# Altium footprint library EUP3489.PcbLib: 7 footprints
Each footprint in its own frame and in the unit in brackets; x right, y up, seen from the top. Pads: shape width x height; smd on the part's side, far side on the other; paste and mask are expansions set on the pad; w line width, h text height; cw(c..) or ccw(c..) is an arc to the next point about the centre after c.
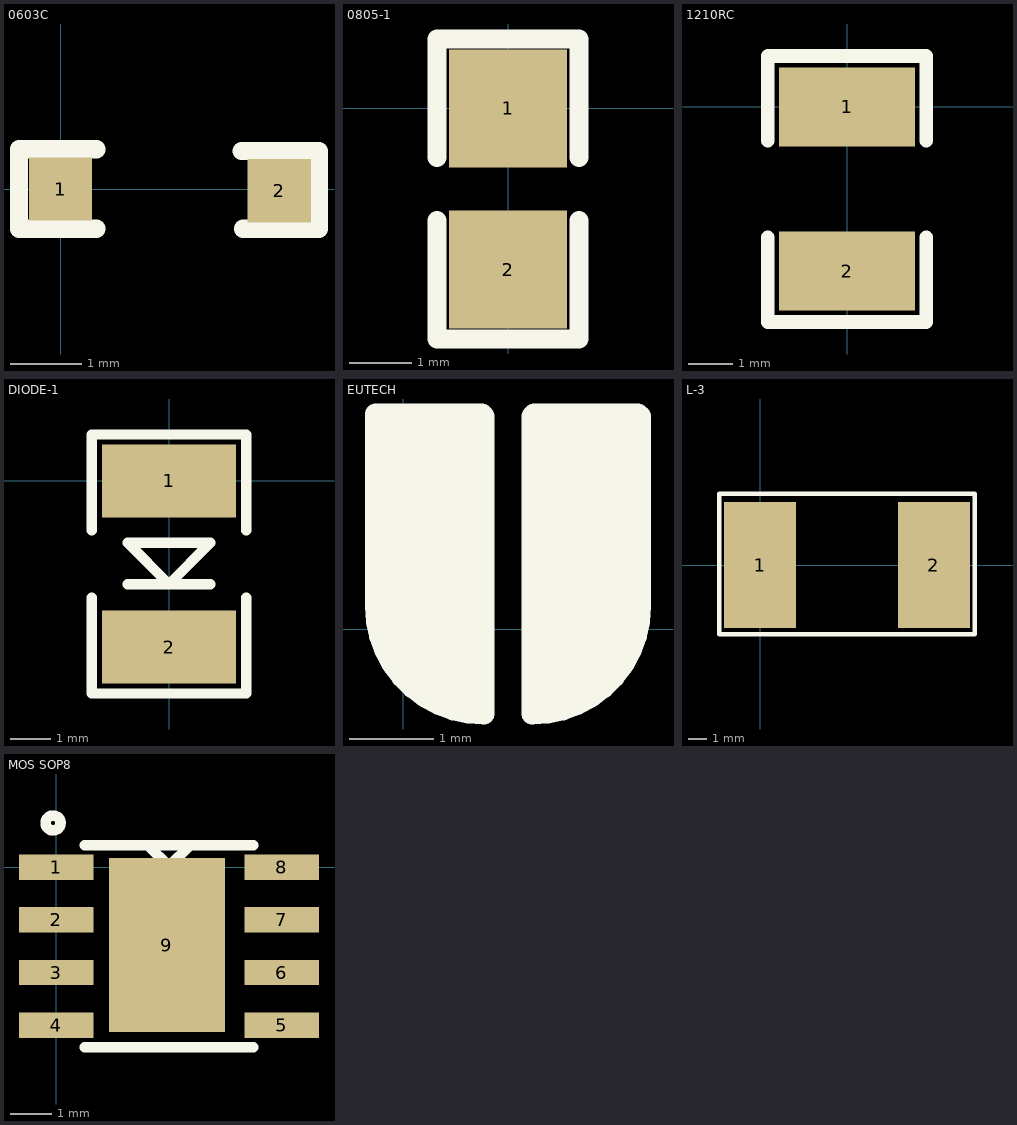
[diagram p0: the footprints below, top view; thin cyan lines are the x and y axes]

## 0603C [mil]
pads (2):
  rect 35x35 smd: 1(0,0) 2(121,-1)
Top Overlay:
  lines w10: 20,-22 -23,-22 -23,22 20,22 ; 100,21 142,21 ; 101,-22 143,-22 142,-21 ; 143,-21 143,21

## 0805-1 [mil]
pads (2):
  rect 75x75 smd: 1(0,0) 2(0,-102)
Top Overlay:
  lines w12: -45,-71 -45,-146 45,-146 45,-71 ; -45,-31 -45,44 45,44 45,-31

## 1210RC [mil]
pads (2):
  rect 120x70 smd: 1(0,0) 2(0,-145)
Top Overlay:
  lines w12: -70,-115 -70,-190 70,-190 70,-115 ; -70,-30 -70,45 70,45 70,-30

## DIODE-1 [mm]
pads (2):
  rect 3.3x1.8 smd: 1(0,0) 2(0,-4.089)
Top Overlay:
  lines w0.254: -1.905,-2.87 -1.905,-5.232 1.905,-5.232 1.905,-2.87 ; -1.905,-1.219 -1.905,1.143 1.905,1.143 1.905,-1.219 ; -1.016,-2.54 1.016,-2.54 ; -1.016,-1.524 1.016,-1.524 0,-2.54 -1.016,-1.524

## EUTECH [mil]
Top Overlay:
  lines w10: -13.02,11.05 ccw(c37.4,11.05) 37.4,-39.37 ; -12.8,10.83 -12.8,100.39 36.42,100.39 37.4,99.41 37.4,-39.37 ; -4.92,94.49 -4.92,-15.75 0,-20.67 0,97.44 0.98,98.43 7.87,98.43 9.84,96.46 9.84,-22.64 18.7,-31.5 18.7,96.46 26.57,96.46 28.54,94.49 28.54,-30.51 37.4,-39.37 ; 69.88,97.44 69.88,-34.45 68.9,-35.43 73.82,-35.43 78.74,-30.51 78.74,97.44 ; 110.46,11.05 cw(c60.04,11.05) 60.04,-39.37 60.04,99.41 61.02,100.39 109.25,100.39 110.24,99.41 110.24,9.84 103.35,-6.89 103.35,96.46 102.36,97.44 94.49,97.44 97.44,94.49 97.44,-17.72 87.6,-27.56 87.6,97.44 78.74,97.44 ; 78.74,97.44 78.74,97.44

## L-3 [mm]
pads (2):
  rect 4x7 smd: 1(0,0) 2(9.652,0)
Top Overlay:
  lines w0.254: -2.261,-3.835 -2.261,3.962 11.913,3.962 11.913,-3.835 -2.261,-3.835

## MOS SOP8 [mil]
pads (9):
  rect 70.87x24 smd: 1(0,0) 2(0,-50) 3(0,-100) 4(0,-150) 5(214,-150) 6(214,-100) 7(214,-50) 8(214,0)
  rect 110.24x165.35 smd: 9(105,-74)
Top Overlay:
  circle w10: c-3.07,42 r7.07
  lines w10: 27,-171 187,-171 ; 27,21 187,21 ; 87,21 107,1 127,21
Top Solder:
  rectangle: 59,-166.19 154,15.81
Bottom Solder:
  rectangle: 40,-165.81 174,16.19